# Altium schematic symbol library DSUB.SchLib: 5 symbols
Pins are listed as number, name and electrical type; pins without a type are passive.

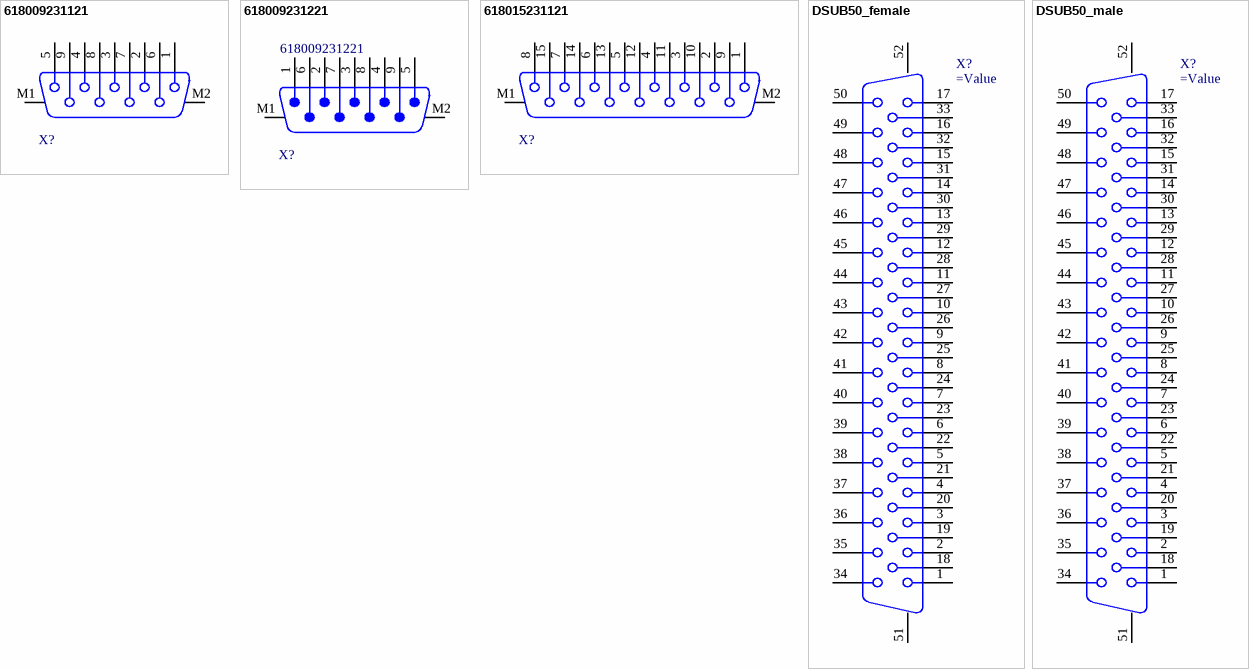
[diagram p0: symbols 618009231121 to DSUB50_male]

## 618009231121
designator X?  (value not drawn)
WR-DSUB 8.08mm Female PCB Connector with Hex Screw, Angled, 9p; Manufacturer: Wurth Elektronik; Contact Resistance: 30mOhm; Rated Current: 3A; Working Voltage: 125VAC; Withstanding Voltage: 1000VAC; Manufacturer Part Number: 618009231121; Category: Input/Output Connectors; Match Code: WR-DSUB; ComponentLink1Description: Website Link; ComponentLink1URL: https://www.we-online.com/redexpert/article/618009231121?ad; ComponentLink2Description: Datasheet Link; ComponentLink2URL: https://www.we-online.com/redexpert/spec/618009231121?ad; Mount: Through Hole; Operating Temperature Max: 105°C; Operating Temperature Min: -55°C; Packaging: Tray; Gender: Female; Number of Pins: 9; Orientation: Angled
footprint 618009231121
pins: 1, 2, 3, 4, 5, 6, 7, 8, 9, M1, M2

## 618009231221
designator X?
WR-DSUB 8.08mm Male PCB Connector with Hex Screw, Angled, 9p; ComponentLink1Description: Website Link; ComponentLink1URL: https://www.we-online.com/redexpert/article/618009231221?ad; ComponentLink2Description: Datasheet Link; ComponentLink2URL: https://www.we-online.com/redexpert/spec/618009231221?ad
pins: 1, 2, 3, 4, 5, 6, 7, 8, 9, M1, M2

## 618015231121
designator X?  (value not drawn)
WR-DSUB 8.08mm Female PCB Connector with Hex Screw, Angled, 15p; Manufacturer: Wurth Elektronik; Contact Resistance: 30mOhm; Rated Current: 3A; Working Voltage: 125VAC; Withstanding Voltage: 1000VAC; Manufacturer Part Number: 618015231121; Category: Input/Output Connectors; Match Code: WR-DSUB; ComponentLink1Description: Website Link; ComponentLink1URL: https://www.we-online.com/redexpert/article/618015231121?ad; ComponentLink2Description: Datasheet Link; ComponentLink2URL: https://www.we-online.com/redexpert/spec/618015231121?ad; Mount: Through Hole; Operating Temperature Max: 105°C; Operating Temperature Min: -55°C; Packaging: Tray; Gender: Female; Number of Pins: 15; Orientation: Angled
footprint 618015231121
pins: 1, 2, 3, 4, 5, 6, 7, 8, 9, 10, 11, 12, 13, 14, 15, M1, M2

## DSUB50_female
designator X?
D-SUB, female, right angle, 50pos, 9.4mm pitch; MPN: 164A18759X; MF: CONEC; Value: 164A18759X; Supplier Part Number 1: D-SUB BU 50GWC; ComponentLink1Description: Datasheet; ComponentLink1URL: http://www.conec.com/catalog/media/conec/DRAWINGS/164A18759X.pdf; Supplier Part Number 2: 706-164A18759X; Supplier 1: Reichelt; Supplier 2: Mouser; Supplier 3: Digi-Key; Supplier Part Number 3: 164A18759X-ND; Created: 2019_10_24_AGeiger
footprint dsub50_female_164A18759X
pins: 1, 2, 3, 4, 5, 6, 7, 8, 9, 10, 11, 12, 13, 14, 15, 16, 17, 18, 19, 20, 21, 22, 23, 24, 25, 26, 27, 28, 29, 30, 31, 32, 33, 34, 35, 36, 37, 38, 39, 40, 41, 42, 43, 44, 45, 46, 47, 48, 49, 50, 51, 52

## DSUB50_male
designator X?
D-SUB, male, right angle, 50pos, 9.4mm pitch; MPN: 163A18339X; MF: CONEC; Value: 163A18339X; Supplier Part Number 1: D-SUB ST 50GWC; Supplier 1: Reichelt; Supplier 2: Mouser; Supplier 3: Digi-Key; Created: 2021_03_25_AGeiger
footprint dsub50_male_163A18339X
pins: 1, 2, 3, 4, 5, 6, 7, 8, 9, 10, 11, 12, 13, 14, 15, 16, 17, 18, 19, 20, 21, 22, 23, 24, 25, 26, 27, 28, 29, 30, 31, 32, 33, 34, 35, 36, 37, 38, 39, 40, 41, 42, 43, 44, 45, 46, 47, 48, 49, 50, 51, 52